# EAGLE library part COIL-DRIVER (library unicorn)
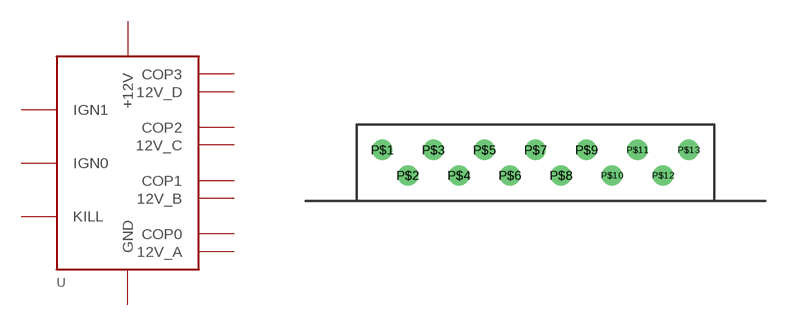
[diagram p0: symbol with the pads of SYSTEM-13; footprint SYSTEM-13]

Designator prefix -

## COIL-DRIVER  [SYSTEM-13]
P$1  +12V  pwr
P$2  12V_A  pwr
P$3  12V_B  pwr
P$4  12V_D  pwr
P$5  COP0  pwr
P$6  COP1  pwr
P$7  COP2  pwr
P$8  COP3  pwr
P$9  12V_C  pwr
P$10  GND  pwr
P$11  IGN0  in
P$12  IGN1  in
P$13  KILL  in

## Footprint SYSTEM-13 (pad centres in mm)
drill 0.5 pad 1.016 round: P$1 -12.7,2.54; P$2 -11.43,1.27; P$3 -10.16,2.54; P$4 -8.89,1.27; P$5 -7.62,2.54; P$6 -6.35,1.27; P$7 -5.08,2.54; P$8 -3.81,1.27; P$9 -2.54,2.54; P$10 -1.27,1.27; P$11 0,2.54; P$12 1.27,1.27; P$13 2.54,2.54